# Altium footprint library Custom.PcbLib: 446 footprints (part 6 of 28)
Each footprint in its own frame and in the unit in brackets; x right, y up, seen from the top. Pads: shape width x height; smd on the part's side, far side on the other; paste and mask are expansions set on the pad; w line width, h text height; cw(c..) or ccw(c..) is an arc to the next point about the centre after c.
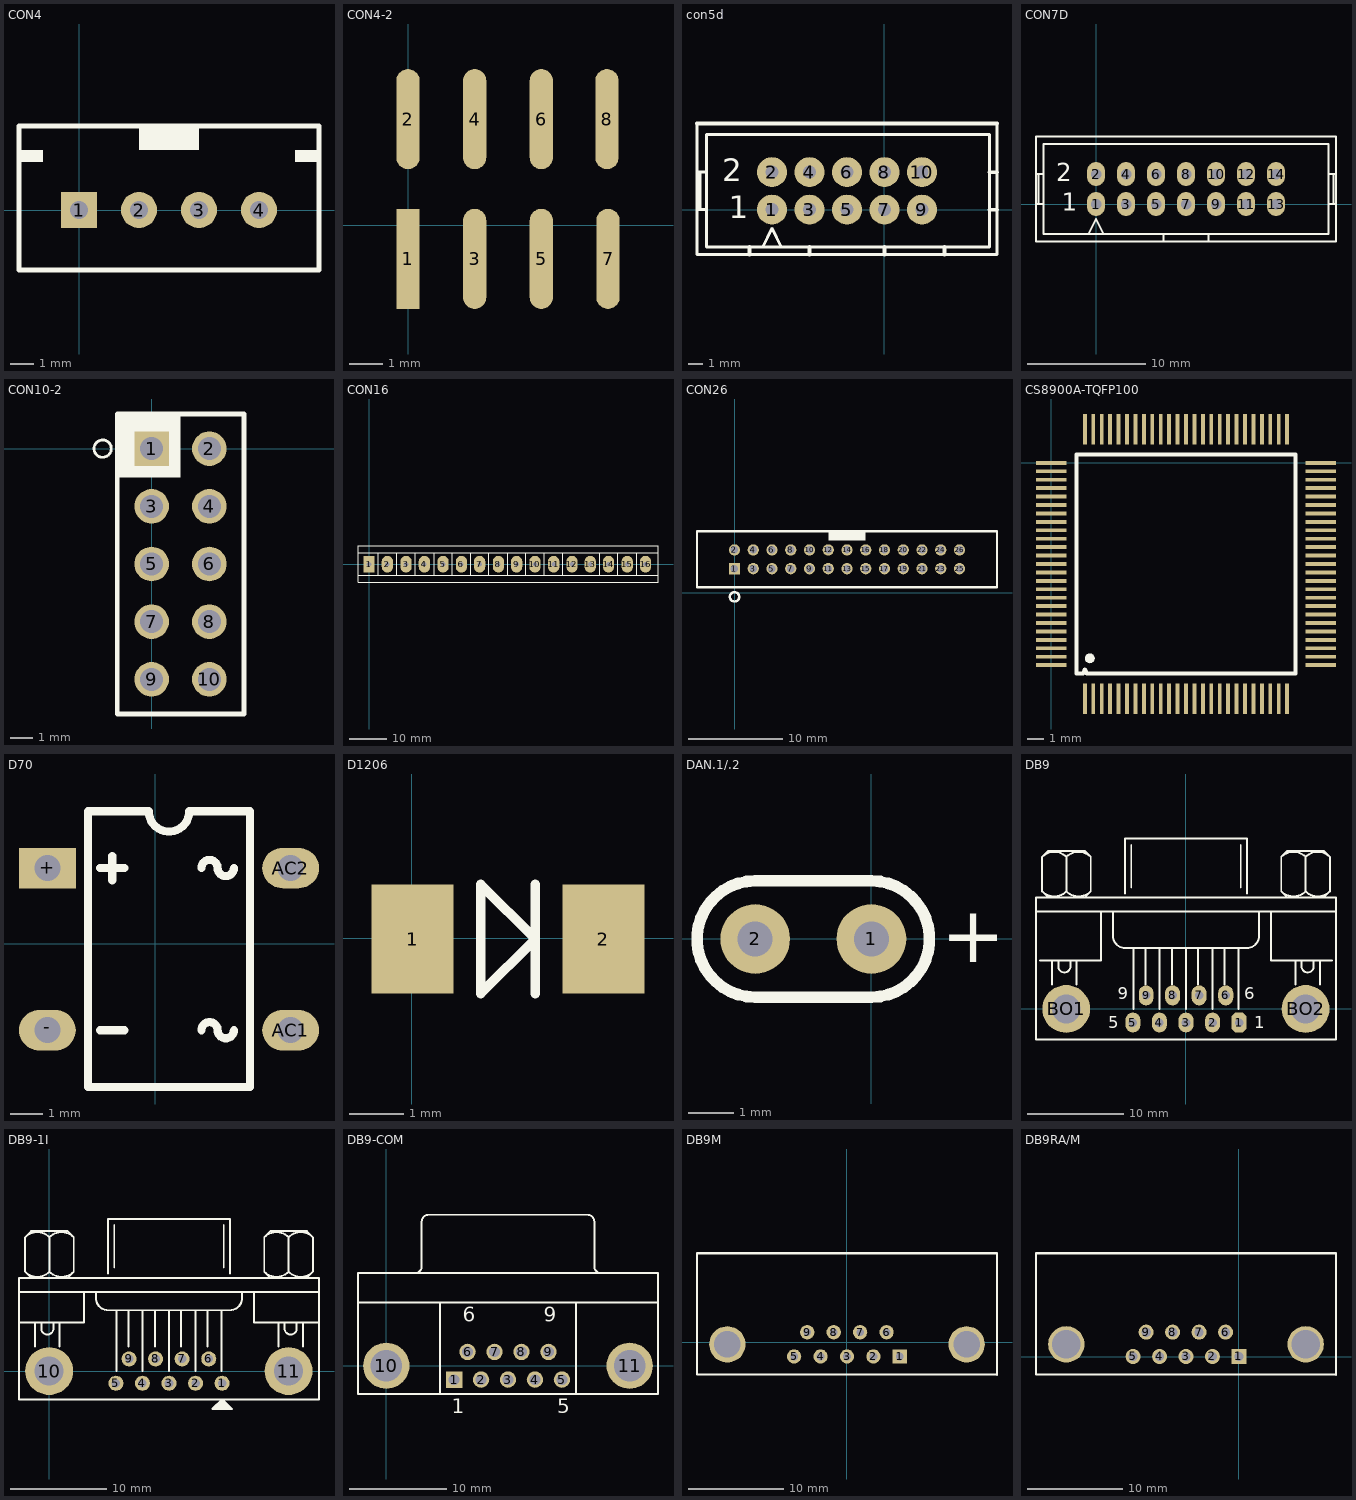
[diagram p5: the footprints below, top view; thin cyan lines are the x and y axes]

## CON4 [mil]
pads (4):
  rect 60x60 hole 30: 1(0,0)
  round 60 hole 30: 2(100,0) 3(200,0) 4(300,0)
Top Overlay:
  region: 200,100 200,140 100,140 100,100
  region: -60,80 -60,100 -100,100 -100,80
  region: 400,80 400,100 360,100 360,80
  lines w8: -100,-100 -100,140 400,140 400,-100 -100,-100

## CON4-2 [mm]
pads (8):
  rect 0.7x3 smd: 1(-0.008,-1.01)
  oval 0.7x3 smd: 2(-0.008,3.181) 3(1.992,-1.01) 4(1.992,3.181) 5(3.992,-1.01) 6(3.992,3.181) 7(5.992,-1.01) 8(5.961,3.181)

## con5d [mil]
pads (10):
  round 80 hole 35: 1(-300,0) 2(-300,100) 3(-200,0) 4(-200,100) 5(-100,0) 6(-100,100) 7(0,0) 8(0,100) 9(100,0) 10(100,100)
Top Overlay:
  lines w8: -500,0 -475,0 ; -500,100 -475,100 ; -500,230 -500,-120 300,-120 300,230 ; -491.67,0 -491.67,100 ; -325,-100 -300,-50 -275,-100 ; -475,-100 -475,200 280,200 280,-100 75,-100 -75,-100 -475,-100
  lines w10: -500,230 300,230 ; -360,-120 -360,-100 ; -200,-120 -200,-100 ; 0,-120 0,-100 ; 160,-120 160,-100 ; 280,0 300,0 ; 280,100 300,100
  text "1" at -415,-23 h60
  text "2" at -432,76 h60

## CON7D [mil]
pads (14):
  oval 60x80 hole 35: 1(0,0) 2(0,100) 3(100,0) 4(100,100) 5(200,0) 6(200,100) 7(300,0) 8(300,100) 9(400,0) 10(400,100) 11(500,0) 12(500,100) 13(600,0) 14(600,100)
Top Overlay:
  lines w8: -200,0 -175,0 ; -200,100 -175,100 ; -191.67,0 -191.67,100 ; -25,-100 0,-50 25,-100 ; 225,-125 225,-100 ; 375,-125 375,-100 ; 775,0 800,0 ; 775,100 800,100 ; 791.67,0 791.67,100 ; 225,-100 375,-100 ; 225,-100 -175,-100 -175,200 775,200 775,-100 375,-100 ; -200,-125 800,-125 800,225 -200,225 -200,-125
  text "2" at -132,76 h60
  text "1" at -115,-23 h60

## CON10-2 [mil]
pads (10):
  rect 60x60 hole 40: 1(-0.3,0)
  round 60 hole 40: 2(99.7,0) 3(-0.3,-100) 4(99.7,-100) 5(-0.3,-200) 6(99.7,-200) 7(-0.3,-300) 8(99.7,-300) 9(-0.3,-400) 10(99.7,-400)
Top Overlay:
  circle w5: c-85.3,0 r15
  rectangle: -60.3,-50 49.7,60
  lines w8: -60.3,-460 -60.3,60 159.7,60 159.7,-460 -60.3,-460

## CON16 [mil]
pads (16):
  rect 120x180 hole 50: 1(0,0)
  oval 120x180 hole 50: 2(195,0) 3(395,0) 4(590,0) 5(790,0) 6(985,0) 7(1180,0) 8(1380,0) 9(1575,0) 10(1770,0) 11(1970,0) 12(2165,0) 13(2360,0) 14(2555,0) 15(2755,0) 16(2950,0)
Top Overlay:
  lines w12: -118,-116 3083,-116 ; -118,120 3083,120 ; 99,-117 99,118 ; 294,-112 294,118 ; 494,-112 494,118 ; 694,-112 694,118 ; 889,-112 889,118 ; 1084,-112 1084,118 ; 1279,-112 1279,118 ; 1479,-112 1479,118 ; 1674,-112 1674,118 ; 1869,-112 1869,118 ; 2069,-112 2069,118 ; 2459,-112 2459,118 ; 2654,-112 2654,118 ; 2854,-112 2854,118 ; -118,-195 -118,199 3083,199 3083,-195 -118,-195

## CON26 [mm]
pads (26):
  rect 1.2x1.2 hole 0.8: 1(-0.008,2.54)
  round 1.2 hole 0.8: 2(-0.008,4.54) 3(1.992,2.54) 4(1.992,4.54) 5(3.992,2.54) 6(3.992,4.54) 7(5.992,2.54) 8(5.992,4.54) 9(7.992,2.54) 10(7.992,4.54) 11(9.992,2.54) 12(9.992,4.54) 13(11.992,2.54) 14(11.992,4.54) 15(13.992,2.54) 16(13.992,4.54) 17(15.992,2.54) 18(15.992,4.54) 19(17.992,2.54) 20(17.992,4.54) 21(19.992,2.54) 22(19.992,4.54) 23(21.992,2.54) 24(21.992,4.54) 25(23.992,2.54) 26(23.992,4.54)
Top Overlay:
  circle w0.254: c-0.008,-0.46 r0.5
  region: 13.992,5.54 13.992,6.54 11.992,6.54 11.992,5.54
  region: 12,5.54 12,6.54 10,6.54 10,5.54
  lines w0.254: -4.008,0.54 27.992,0.54 27.992,1.54 27.992,5.54 27.992,6.54 -4.008,6.54 -4.008,5.54 -4.008,1.54 -4.008,0.54

## CS8900A-TQFP100 [mm]
pads (100):
  rect 0.23x1.8 smd: 1(2,-14) 2(2.5,-14) 3(3,-14) 4(3.5,-14) 5(4,-14) 6(4.5,-14) 7(5,-14) 8(5.5,-14) 9(6,-14) 10(6.5,-14) 11(7,-14) 12(7.5,-14) 13(8,-14) 14(8.5,-14) 15(9,-14) 16(9.5,-14) 17(10,-14) 18(10.5,-14) 19(11,-14) 20(11.5,-14) 21(12,-14) 22(12.5,-14) 23(13,-14) 24(13.5,-14) 25(14,-14) 51(14,2) 52(13.5,2) 53(13,2) 54(12.5,2) 55(12,2) 56(11.5,2) 57(11,2) 58(10.5,2) 59(10,2) 60(9.5,2) 61(9,2) 62(8.5,2) 63(8,2) 64(7.5,2) 65(7,2) 66(6.5,2) 67(6,2) 68(5.5,2) 69(5,2) 70(4.5,2) 71(4,2) 72(3.5,2) 73(3,2) 74(2.5,2) 75(2,2)
  rect 1.8x0.23 smd: 26(16,-12) 27(16,-11.5) 28(16,-11) 29(16,-10.5) 30(16,-10) 31(16,-9.5) 32(16,-9) 33(16,-8.5) 34(16,-8) 35(16,-7.5) 36(16,-7) 37(16,-6.5) 38(16,-6) 39(16,-5.5) 40(16,-5) 41(16,-4.5) 42(16,-4) 43(16,-3.5) 44(16,-3) 45(16,-2.5) 46(16,-2) 47(16,-1.5) 48(16,-1) 49(16,-0.5) 50(16,0) 76(0,0) 77(0,-0.5) 78(0,-1) 79(0,-1.5) 80(0,-2) 81(0,-2.5) 82(0,-3) 83(0,-3.5) 84(0,-4) 85(0,-4.5) 86(0,-5) 87(0,-5.5) 88(0,-6) 89(0,-6.5) 90(0,-7) 91(0,-7.5) 92(0,-8) 93(0,-8.5) 94(0,-9) 95(0,-9.5) 96(0,-10) 97(0,-10.5) 98(0,-11) 99(0,-11.5) 100(0,-12)
Top Overlay:
  region: 2.588,-11.6 2.566,-11.49 2.504,-11.396 2.41,-11.334 2.3,-11.312 2.19,-11.334 2.096,-11.396 2.034,-11.49 2.012,-11.6 2.034,-11.71 2.096,-11.804 2.19,-11.866 2.3,-11.888 2.41,-11.866 2.504,-11.804 2.566,-11.71
  lines w0.254: 1.5,-12.5 1.885,-12.5 2,-12.27 2.115,-12.5 14.5,-12.5 14.5,0.5 1.5,0.5 1.5,-12.5

## D70 [mil]
pads (4):
  rect 70x50 hole 32: +(-133.07,93.07)
  oval 70x50 hole 32: -(-133.07,-106.93) AC1(166.93,-106.93) AC2(166.93,93.07)
Top Overlay:
  lines w10: -68.07,-106.93 -38.07,-106.93 ; -68.07,93.07 -38.07,93.07 ; -53.07,78.07 -53.07,108.07 ; 56.93,-106.93 cw(c66.93,-106.93) 76.93,-106.93 ccw(c86.93,-106.93) 96.93,-106.93 ; 56.93,93.07 cw(c66.93,93.07) 76.93,93.07 ccw(c86.93,93.07) 96.93,93.07 ; -83.07,-176.93 -83.07,163.07 -8.07,163.07 ccw(c16.93,163.07) 41.93,163.07 116.93,163.07 116.93,-176.93 -83.07,-176.93

## D1206 [mm]
pads (2):
  rect 1.5x2 smd: 1(0.015,-0.01) 2(3.515,-0.01)
Top Overlay:
  lines w0.025: 1.265,0.99 1.265,0.99 ; 2.265,-0.01 2.265,-0.01
  lines w0.178: 2.265,-1.01 2.265,0.99 ; 1.265,-1.01 2.265,-0.01 1.265,0.99 1.265,-1.01

## DAN.1/.2 [mil]
pads (2):
  round 60 hole 30: 1(0,0) 2(-100,0)
Top Overlay:
  lines w10: -100,-50 cw(c-100,0) -100,50 0,50 cw(c0,0) 0,-50 -100,-50
  text "+" at 60,-20 h48

## DB9 [mil]
pads (11):
  oct 62x82 hole 35: 1(218.75,-55.83)
  oval 62x82 hole 35: 2(109.58,-55.83) 3(0.42,-55.83) 4(-108.75,-55.83) 5(-217.92,-55.83) 6(163.75,55.83) 7(54.58,55.83) 8(-54.58,55.83)
  oval 60x82 hole 35: 9(-163.75,55.83)
  round 196.67 hole 118.33: BO1(-492.08,0) BO2(492.08,0)
Top Overlay:
  lines w8: -616.25,400 617.08,400 ; -599.58,200 -349.58,200 -349.58,400 ; -591.34,483.25 ccw(c-541.25,533.33) -491.16,483.25 ; -591.34,625.09 cw(c-541.25,575) -491.16,625.09 ; -566.25,458.33 -591.25,483.33 -591.25,625 -566.25,650 -416.25,650 -391.25,625 -391.25,483.33 -416.25,458.33 ; -549.58,100 -549.58,200 ; -524.58,200 -524.58,175 ccw(c-499.58,175) -474.58,175 -474.58,200 ; -491.34,483.25 ccw(c-441.25,533.33) -391.16,483.25 ; -491.34,625.09 cw(c-441.25,575) -391.16,625.09 ; -491.25,483.33 -491.25,625 ; -449.58,100 -449.58,200 ; -299.58,400 -299.58,300 ccw(c-249.58,300) -249.58,250 250.42,250 ccw(c250.42,300) 300.42,300 300.42,400 ; -249.58,475 -249.58,700 250.42,700 250.42,475 ; -224.58,500 -224.58,675 ; -216.25,0 -216.25,250 ; -166.25,100 -166.25,250 ; -107.92,0 -107.92,250 ; -57.92,100 -57.92,250 ; 0.42,0 0.42,250 ; 50.42,100 50.42,250 ; 108.75,0 108.75,250 ; 158.75,100 158.75,250 ; 217.08,0 217.08,250 ; 225.42,500 225.42,675 ; 350.42,400 350.42,200 600.42,200 ; 392,483.25 ccw(c442.08,533.33) 492.17,483.25 ; 392,625.09 cw(c442.08,575) 492.17,625.09 ; 417.08,458.33 392.08,483.33 392.08,625 417.08,650 567.08,650 592.08,625 592.08,483.33 567.08,458.33 ; 450.42,100 450.42,200 ; 475.42,200 475.42,175 ccw(c500.42,175) 525.42,175 525.42,200 ; 492,483.25 ccw(c542.08,533.33) 592.17,483.25 ; 492,625.09 cw(c542.08,575) 592.17,625.09 ; 492.08,483.33 492.08,625 ; 550.42,100 550.42,200 ; -616.25,-125 617.08,-125 617.08,458.33 -616.25,458.33 -616.25,-125
  text "6" at 240.42,40 h50
  text "1" at 280.42,-80 h50
  text "5" at -319.58,-80 h50
  text "9" at -279.58,40 h50

## DB9-1I [mil]
pads (11):
  round 62 hole 35: 1(710.83,-50) 2(601.66,-50) 3(492.5,-50) 4(383.33,-50) 5(274.16,-50) 6(655.83,50) 7(546.66,50) 8(437.5,50) 9(328.33,50)
  round 197 hole 119: 10(0,0) 11(984.16,0)
Top Overlay:
  lines w8: -124.17,325.2 1109.16,325.2 ; -122.2,200 -107.5,200 142.5,200 142.5,323.45 ; -99.25,408.45 ccw(c-49.17,458.53) 0.91,408.45 0.92,550.28 ccw(c-49.16,500.19) -99.25,550.28 ; -74.17,383.53 -99.17,408.53 -99.17,550.2 -74.17,575.2 75.83,575.2 100.83,550.2 100.83,408.53 75.83,383.53 ; -57.5,100 -57.5,200 ; -32.5,200 -32.5,175 ccw(c-7.5,175) 17.5,175 17.5,200 ; 0.75,408.45 ccw(c50.83,458.53) 100.91,408.45 ; 0.75,550.28 cw(c50.84,500.19) 100.92,550.28 ; 42.5,100 42.5,200 ; 192.5,324.19 192.5,300 ccw(c242.5,300) 242.5,250 742.5,250 ccw(c742.5,300) 792.5,300 792.5,323.85 ; 242.5,400.2 242.5,625.2 742.5,625.2 742.5,400.2 ; 267.5,425.2 267.5,600.2 ; 275.83,0 275.83,250 ; 325.83,100 325.83,250 ; 384.16,0 384.16,250 ; 434.16,100 434.16,250 ; 492.5,0 492.5,250 ; 542.5,100 542.5,250 ; 600.83,0 600.83,250 ; 650.83,100 650.83,108.33 650.83,250 ; 678.38,-148.33 742.76,-148.33 ; 686.35,-140.35 734.78,-140.35 ; 694.03,-132.68 727.11,-132.68 ; 701.19,-125.51 720.14,-125.51 ; 709.16,0 709.16,250 ; 717.5,425.2 717.5,600.2 ; 842.5,323.79 842.5,200 1092.5,200 1107.19,200 ; 884.08,408.45 ccw(c934.16,458.54) 984.25,408.45 984.25,550.28 ccw(c934.16,500.19) 884.08,550.28 ; 909.16,383.53 884.16,408.53 884.16,550.2 909.16,575.2 1059.16,575.2 1084.16,550.2 1084.16,408.53 1059.16,383.53 ; 942.5,100 942.5,200 ; 967.5,200 967.5,175 ccw(c992.5,175) 1017.5,175 1017.5,200 ; 984.08,408.45 ccw(c1034.16,458.54) 1084.25,408.45 ; 984.08,550.28 cw(c1034.16,500.19) 1084.25,550.28 ; 1042.5,100 1042.5,200 ; -124.17,-116.67 -124.17,383.53 1109.16,383.53 1109.16,-116.67 -124.17,-116.67 ; 670.83,-155.87 710.83,-115.87 750.83,-155.87 670.83,-155.87
Multi-Layer:
  text "1" at 766.29,-69.68 h25
  text "5" at 187.55,-73.62 h25
  text "9" at 222.98,20.87 h25
  text "6" at 730.83,20 h25

## DB9-COM [mm]
height 12.93
pads (11):
  rect 1.69x1.69 hole 1.09: 1(6.955,-1.42)
  round 1.69 hole 1.09: 2(9.725,-1.42) 3(12.495,-1.42) 4(15.265,-1.42) 5(18.035,-1.42) 6(8.34,1.42) 7(11.11,1.42) 8(13.88,1.42) 9(16.65,1.42)
  round 4.76 hole 3.26: 10(0,0) 11(24.99,0)
Top Overlay:
  lines w0.2: -2.905,6.5 27.895,6.5 ; 2.935,9.505 ccw(c2.935,10.2) 3.63,10.2 3.63,14.8 ; 3.635,14.805 cw(c4.33,14.805) 4.33,15.5 20.66,15.5 cw(c20.66,14.805) 21.355,14.805 ; 5.495,-2.9 5.495,6.5 ; 19.495,-2.9 19.495,6.5 ; 21.36,14.8 21.36,10.2 ccw(c22.055,10.2) 22.055,9.505 ; -2.905,-2.9 27.895,-2.9 27.895,9.5 -2.905,9.5 -2.905,-2.9
  text "6" at 7.84,4.525 h1.5
  text "9" at 16.15,4.525 h1.5
  text "5" at 17.535,-4.875 h1.5
  text "1" at 6.705,-4.875 h1.5

## DB9M [mm]
pads (11):
  rect 1.5x1.5 hole 0.8: 1(5.554,-1.474)
  round 1.5 hole 0.8: 2(2.785,-1.474) 3(0.017,-1.474) 4(-2.752,-1.474) 5(-5.52,-1.474) 6(4.157,1.066) 7(1.388,1.066) 8(-1.38,1.066) 9(-4.149,1.066)
  round 3.8 hole 2.8: ""(-12.505,-0.204) ""(12.539,-0.204)
Top Overlay:
  lines w0.203: -15.68,9.321 -15.68,-3.379 15.714,-3.379
  lines w0.254: -15.68,9.321 15.714,9.321 15.714,-3.379

## DB9RA/M [mil]
pads (11):
  rect 62x62 hole 38: 1(-0.25,0.14)
  round 62 hole 38: 2(-109.25,0.14) 3(-218.25,0.14) 4(-327.25,0.14) 5(-436.25,0.14) 6(-55.25,100.14) 7(-164.25,100.14) 8(-273.25,100.14) 9(-382.25,100.14)
  round 150 hole 118.11: ""(-711.25,50.14) ""(274.75,50.14)
Top Overlay:
  lines w8: -836.25,425.14 -836.25,-74.86 399.75,-74.86
  lines w10: -836.25,425.14 399.75,425.14 399.75,-74.86